# Altium footprint library SnapEDApcb.PcbLib: 1 footprints
Each footprint in its own frame and in the unit in brackets; x right, y up, seen from the top. Pads: shape width x height; smd on the part's side, far side on the other; paste and mask are expansions set on the pad; w line width, h text height; cw(c..) or ccw(c..) is an arc to the next point about the centre after c.
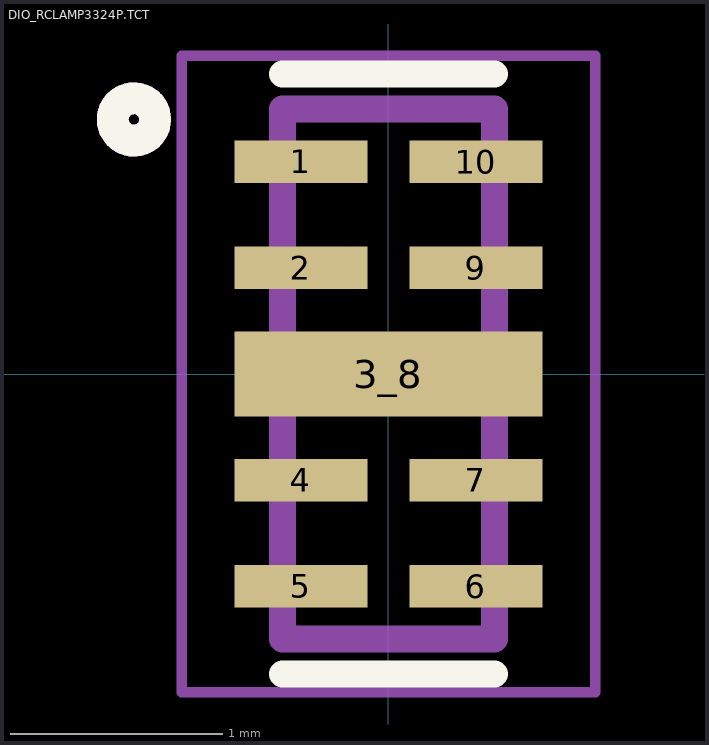
[diagram p0: the footprint, top view; thin cyan lines are the x and y axes]

## DIO_RCLAMP3324P.TCT [mm]
pads (9):
  rect 0.625x0.2 smd: 1(-0.413,1) 2(-0.413,0.5) 4(-0.413,-0.5) 5(-0.413,-1) 6(0.413,-1) 7(0.413,-0.5) 9(0.413,0.5) 10(0.413,1)
  rect 1.45x0.4 smd paste-2: 3_8(0,0)
Top Overlay:
  circle w0.15: c-1.2,1.2 r0.1
  lines w0.127: -0.5,-1.415 0.5,-1.415 ; -0.5,1.415 0.5,1.415
Top Paste:
  region: 0.141,-0.513 -0.141,-0.513 -0.141,0.513 0.141,0.513
Mechanical 13:
  circle w0.15: c-1.2,1.2 r0.1
  lines w0.127: -0.5,-1.25 0.5,-1.25 0.5,1.25 -0.5,1.25 -0.5,-1.25
Mechanical 15:
  lines w0.05: -0.975,-1.5 0.975,-1.5 0.975,1.5 -0.975,1.5 -0.975,-1.5